# EAGLE library part TC7660 (library te)
Charge Pump DC-to-DC Voltage Converter Features > Wide Input Voltage Range: +1.5V to +10V > Efficient Voltage Conversion (99.9%, typ) > Excellent Power Efficiency (98%, typ) > Low Power Consumption: 80 ?A (typ) @ VIN = 5V > Low Cost and Easy to Use > Only Two External Capacitors Required > Improved ESD Protection (3 kV HBM) > No External Diode Required for High-VoltageOperation Applications > RS-232 Negative Power Supply > Simple Conversion of +5V to ±5V Supplies > Voltage Multiplication VOUT = ± n V+ > Negative Supplies for Data Acquisition Systems and Instrumentation
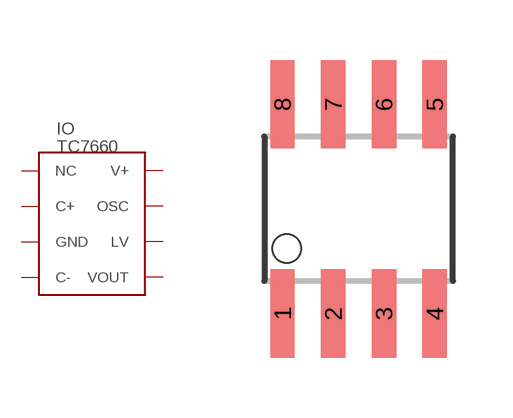
[diagram p4: symbol with the pads of SO08; footprint SO08]

Designator prefix IO

## TC7660  [SO08]
1  NC
2  C+
3  GND
4  C-
5  VOUT
6  LV
7  OSC
8  V+

## Footprint SO08 (pad centres in mm)
Small Outline Package
smd 0.61 x 2.21: 1 -1.905,-2.616; 2 -0.635,-2.616; 3 0.635,-2.616; 4 1.905,-2.616; 5 1.905,2.616; 6 0.635,2.616; 7 -0.635,2.616; 8 -1.905,2.616